# EAGLE library part IC_PCA82C250? (library psas_eagle_library)
Philips PCA82C250 High Speed CAN Bus Driver
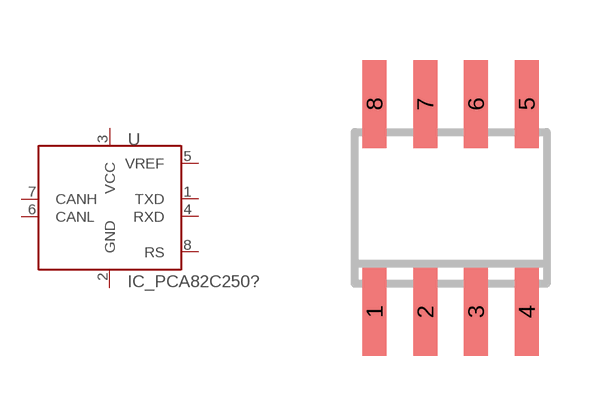
[diagram p1: symbol with the pads of SO8; footprint SO8]

Designator prefix U

## IC_PCA82C250T  [SO8]
1  TXD  in
2  GND  pwr
3  VCC  pwr
4  RXD  out
5  VREF  pas
6  CANL
7  CANH
8  RS  in

## Footprint SO8 (pad centres in mm)
smd 0.6 x 2.2: 1 -1.905,-2.6; 2 -0.635,-2.6; 3 0.635,-2.6; 4 1.905,-2.6; 5 1.905,2.6; 6 0.635,2.6; 7 -0.635,2.6; 8 -1.905,2.6